# Altium footprint library PIC18F24Q10.PcbLib: 4 footprints
Each footprint in its own frame and in the unit in brackets; x right, y up, seen from the top. Pads: shape width x height; smd on the part's side, far side on the other; paste and mask are expansions set on the pad; w line width, h text height; cw(c..) or ccw(c..) is an arc to the next point about the centre after c.
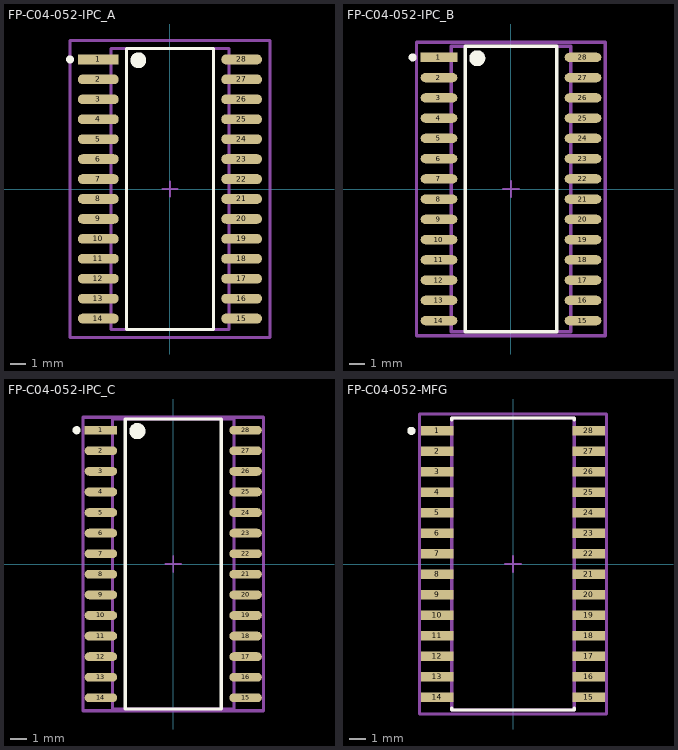
[diagram p0: the footprints below, top view; thin cyan lines are the x and y axes]

## FP-C04-052-IPC_A [mil]
pads (28):
  rect 102.47x24.49 smd paste+0 mask+0: 1(-179.74,325)
  rrect100% 102.47x24.49 smd paste+0 mask+0: 2(-179.74,275) 3(-179.74,225) 4(-179.74,175) 5(-179.74,125) 6(-179.74,75) 7(-179.74,25) 8(-179.74,-25) 9(-179.74,-75) 10(-179.74,-125) 11(-179.74,-175) 12(-179.74,-225) 13(-179.74,-275) 14(-179.74,-325) 15(179.74,-325) 16(179.74,-275) 17(179.74,-225) 18(179.74,-175) 19(179.74,-125) 20(179.74,-75) 21(179.74,-25) 22(179.74,25) 23(179.74,75) 24(179.74,125) 25(179.74,175) 26(179.74,225) 27(179.74,275) 28(179.74,325)
Top Overlay:
  circle w19.68: c-79.3,322.83 r9.84
  circle w9.84: c-250.66,325 r4.92
  lines w7.87: -108.82,-352.36 108.82,-352.36 108.82,352.36 -108.82,352.36 -108.82,-352.36
Top Assembly:
  lines w7.87: -250.66,-372.05 250.66,-372.05 250.66,372.05 -250.66,372.05 -250.66,-372.05
  text ".Designator" at 0,-0.02 h39.37
Top 3D Body:
  lines w7.87: -147.64,-352.36 147.64,-352.36 147.64,352.36 -147.64,352.36 -147.64,-352.36
Top Courtyard:
  lines w7.87: -250.66,-372.05 250.66,-372.05 250.66,372.05 -250.66,372.05 -250.66,-372.05
Top Component Center:
  lines w3.94: -19.68,0 19.68,0 ; 0,-19.68 0,19.68

## FP-C04-052-IPC_B [mil]
pads (28):
  rect 90.66x22.92 smd paste+0 mask+0: 1(-177.78,325)
  rrect100% 90.66x22.92 smd paste+0 mask+0: 2(-177.78,275) 3(-177.78,225) 4(-177.78,175) 5(-177.78,125) 6(-177.78,75) 7(-177.78,25) 8(-177.78,-25) 9(-177.78,-75) 10(-177.78,-125) 11(-177.78,-175) 12(-177.78,-225) 13(-177.78,-275) 14(-177.78,-325) 15(177.78,-325) 16(177.78,-275) 17(177.78,-225) 18(177.78,-175) 19(177.78,-125) 20(177.78,-75) 21(177.78,-25) 22(177.78,25) 23(177.78,75) 24(177.78,125) 25(177.78,175) 26(177.78,225) 27(177.78,275) 28(177.78,325)
Top Overlay:
  circle w19.68: c-83.23,322.83 r9.84
  circle w9.84: c-242.79,325 r4.92
  lines w7.87: -112.76,-352.36 112.76,-352.36 112.76,352.36 -112.76,352.36 -112.76,-352.36
Top Assembly:
  lines w7.87: -232.95,-362.2 232.95,-362.2 232.95,362.2 -232.95,362.2 -232.95,-362.2
  text ".Designator" at 0,-0.02 h39.37
Top 3D Body:
  lines w7.87: -147.64,-352.36 147.64,-352.36 147.64,352.36 -147.64,352.36 -147.64,-352.36
Top Courtyard:
  lines w7.87: -232.95,-362.2 232.95,-362.2 232.95,362.2 -232.95,362.2 -232.95,-362.2
Top Component Center:
  lines w3.94: -19.68,0 19.68,0 ; 0,-19.68 0,19.68

## FP-C04-052-IPC_C [mil]
pads (28):
  rect 78.85x21.34 smd paste+0 mask+0: 1(-175.81,325)
  rrect100% 78.85x21.34 smd paste+0 mask+0: 2(-175.81,275) 3(-175.81,225) 4(-175.81,175) 5(-175.81,125) 6(-175.81,75) 7(-175.81,25) 8(-175.81,-25) 9(-175.81,-75) 10(-175.81,-125) 11(-175.81,-175) 12(-175.81,-225) 13(-175.81,-275) 14(-175.81,-325) 15(175.81,-325) 16(175.81,-275) 17(175.81,-225) 18(175.81,-175) 19(175.81,-125) 20(175.81,-75) 21(175.81,-25) 22(175.81,25) 23(175.81,75) 24(175.81,125) 25(175.81,175) 26(175.81,225) 27(175.81,275) 28(175.81,325)
Top Overlay:
  circle w19.68: c-87.17,322.83 r9.84
  circle w9.84: c-234.92,325 r4.92
  lines w7.87: -116.7,-352.36 116.7,-352.36 116.7,352.36 -116.7,352.36 -116.7,-352.36
Top Assembly:
  lines w7.87: -219.17,-356.3 219.17,-356.3 219.17,356.3 -219.17,356.3 -219.17,-356.3
  text ".Designator" at 0,-0.02 h39.37
Top 3D Body:
  lines w7.87: -147.64,-352.36 147.64,-352.36 147.64,352.36 -147.64,352.36 -147.64,-352.36
Top Courtyard:
  lines w7.87: -219.17,-356.3 219.17,-356.3 219.17,356.3 -219.17,356.3 -219.17,-356.3
Top Component Center:
  lines w3.94: -19.68,0 19.68,0 ; 0,-19.68 0,19.68

## FP-C04-052-MFG [mm]
pads (28):
  rect 2x0.6 smd paste+0 mask+0: 1(-4.7,8.255) 2(-4.7,6.985) 3(-4.7,5.715) 4(-4.7,4.445) 5(-4.7,3.175) 6(-4.7,1.905) 7(-4.7,0.635) 8(-4.7,-0.635) 9(-4.7,-1.905) 10(-4.7,-3.175) 11(-4.7,-4.445) 12(-4.7,-5.715) 13(-4.7,-6.985) 14(-4.7,-8.255) 15(4.7,-8.255) 16(4.7,-6.985) 17(4.7,-5.715) 18(4.7,-4.445) 19(4.7,-3.175) 20(4.7,-1.905) 21(4.7,-0.635) 22(4.7,0.635) 23(4.7,1.905) 24(4.7,3.175) 25(4.7,4.445) 26(4.7,5.715) 27(4.7,6.985) 28(4.7,8.255)
Top Overlay:
  circle w0.25: c-6.3,8.255 r0.125
  lines w0.2: -3.8,-8.93 -3.8,-9.05 3.8,-9.05 3.8,-8.93 ; -3.8,8.93 -3.8,9.05 3.8,9.05 3.8,8.93
Top Assembly:
  lines w0.2: -5.8,-9.3 5.8,-9.3 5.8,9.3 -5.8,9.3 -5.8,-9.3
  text ".Designator" at 0,0.188 h1
Top 3D Body:
  lines w0.2: -3.8,-9.05 3.8,-9.05 3.8,9.05 -3.8,9.05 -3.8,-9.05
Top Courtyard:
  lines w0.2: -5.8,-9.3 5.8,-9.3 5.8,9.3 -5.8,9.3 -5.8,-9.3
Top Component Center:
  lines w0.1: -0.5,0 0.5,0 ; 0,-0.5 0,0.5
3D body "IC_Microchip_PIC16F1718-I-SO_eec.STEP": height 0.25, standoff 0, extent -5.8,-9.3 5.8,9.3